# Altium schematic symbol library SCH - CONNECTORS - GENERIC - 8 PIN DUAL ROW.SCHLIB: 1 symbol
Pins are listed as number, name and electrical type; pins without a type are passive.

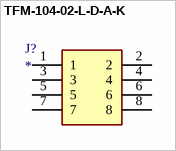
[diagram p0: symbol TFM-104-02-L-D-A-K]

## TFM-104-02-L-D-A-K
designator J?
Connector
pins: 1, 2, 3, 4, 5, 6, 7, 8